# Altium footprint library DLP-Cape.PcbLib: 14 footprints
Each footprint in its own frame and in the unit in brackets; x right, y up, seen from the top. Pads: shape width x height; smd on the part's side, far side on the other; paste and mask are expansions set on the pad; w line width, h text height; cw(c..) or ccw(c..) is an arc to the next point about the centre after c.
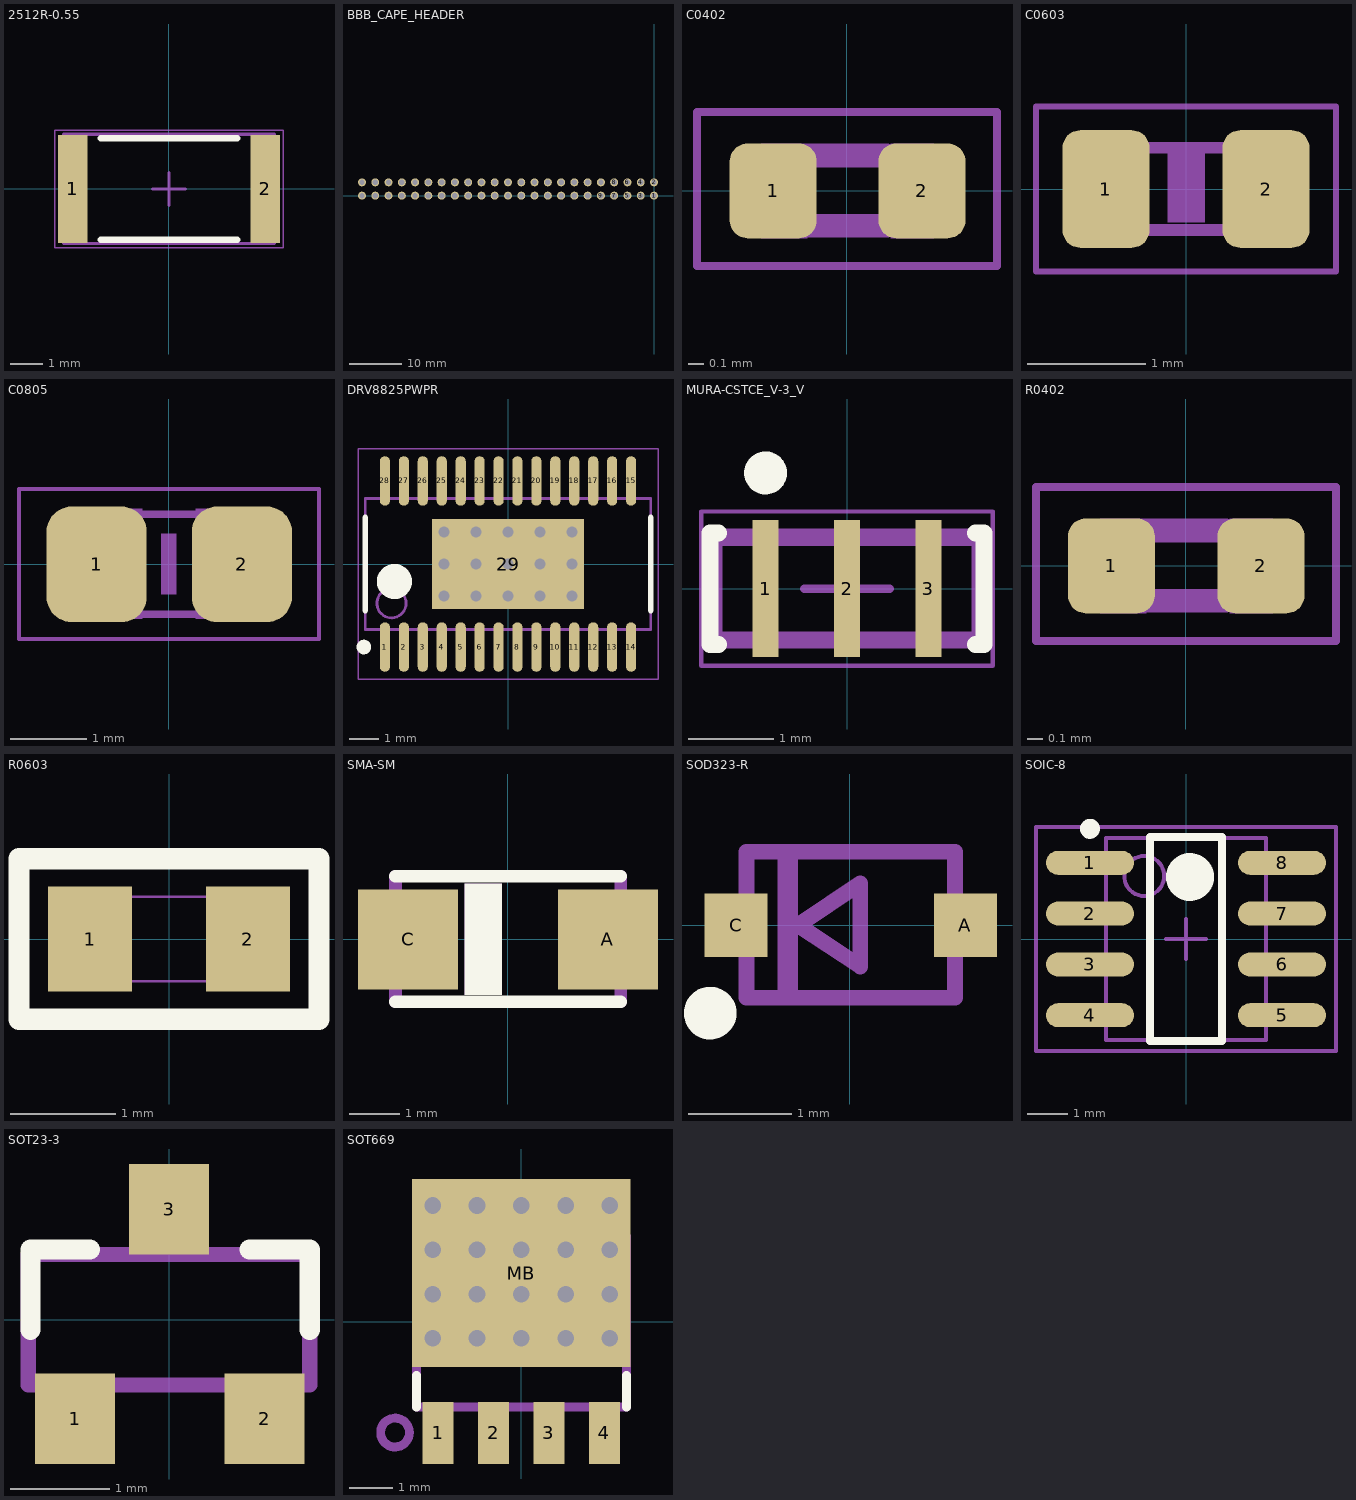
[diagram p0: the footprints below, top view; thin cyan lines are the x and y axes]

## 2512R-0.55 [mm] "2512 Resistor 6.35mm x 3.2mm x 0.55mm"
height 0.65
pads (2):
  rect 0.9x3.3 smd: 1(-2.95,0) 2(2.95,0)
Top Overlay:
  lines w0.2: -2.1,-1.55 2.1,-1.55 ; -2.1,1.55 2.1,1.55
Mechanical 13:
  lines w0.1: -3.225,-1.675 3.225,-1.675 3.225,1.675 -3.225,1.675 -3.225,-1.675
Mechanical 15:
  lines w0.05: -3.5,-1.8 3.5,-1.8 3.5,1.8 -3.5,1.8 -3.5,-1.8
  lines w0.1: -0.5,0 0.5,0 ; 0,-0.5 0,0.5
3D body: height 0.65, standoff 0, extent 2.725,-1.675 3.225,1.675
3D body: height 0.65, standoff 0, extent -3.225,-1.675 -2.725,1.675
3D body: height 0.65, standoff 0, extent -2.725,-1.675 2.725,1.675

## BBB_CAPE_HEADER [mil] "46-pin male header for BeagleBone Black P8,P9"
pads (46):
  round 60 hole 40: 1(0,0) 2(0,100) 3(-100,0) 4(-100,100) 5(-200,0) 6(-200,100) 7(-300,0) 8(-300,100) 9(-400,0) 10(-400,100) 11(-500,0) 12(-500,100) 13(-600,0) 14(-600,100) 15(-700,0) 16(-700,100) 17(-800,0) 18(-800,100) 19(-900,0) 20(-900,100) 21(-1000,0) 22(-1000,100) 23(-1100,0) 24(-1100,100) 25(-1200,0) 26(-1200,100) 27(-1300,0) 28(-1300,100) 29(-1400,0) 30(-1400,100) 31(-1500,0) 32(-1500,100) 33(-1600,0) 34(-1600,100) 35(-1700,0) 36(-1700,100) 37(-1800,0) 38(-1800,100) 39(-1900,0) 40(-1900,100) 41(-2000,0) 42(-2000,100) 43(-2100,0) 44(-2100,100) 45(-2200,0) 46(-2200,100)
3D body "c-87224-2-l-3d.stp": height 408.48, standoff -124.52, extent -2246,-42 -2154,142
3D body "c-87224-2-l-3d.stp": height 408.48, standoff -124.52, extent -2046,-42 -1954,142
3D body "c-87224-2-l-3d.stp": height 408.48, standoff -124.52, extent -2146,-42 -2054,142
3D body "c-87224-2-l-3d.stp": height 408.48, standoff -124.52, extent -1846,-42 -1754,142
3D body "c-87224-2-l-3d.stp": height 408.48, standoff -124.52, extent -1946,-42 -1854,142
3D body "c-87224-2-l-3d.stp": height 408.48, standoff -124.52, extent -1646,-42 -1554,142
3D body "c-87224-2-l-3d.stp": height 408.48, standoff -124.52, extent -1746,-42 -1654,142
3D body "c-87224-2-l-3d.stp": height 408.48, standoff -124.52, extent -1446,-42 -1354,142
3D body "c-87224-2-l-3d.stp": height 408.48, standoff -124.52, extent -1546,-42 -1454,142
3D body "c-87224-2-l-3d.stp": height 408.48, standoff -124.52, extent -1246,-42 -1154,142
3D body "c-87224-2-l-3d.stp": height 408.48, standoff -124.52, extent -1346,-42 -1254,142
3D body "c-87224-2-l-3d.stp": height 408.48, standoff -124.52, extent -1046,-42 -954,142
3D body "c-87224-2-l-3d.stp": height 408.48, standoff -124.52, extent -1146,-42 -1054,142
3D body "c-87224-2-l-3d.stp": height 408.48, standoff -124.52, extent -846,-42 -754,142
3D body "c-87224-2-l-3d.stp": height 408.48, standoff -124.52, extent -946,-42 -854,142
3D body "c-87224-2-l-3d.stp": height 408.48, standoff -124.52, extent -646,-42 -554,142
3D body "c-87224-2-l-3d.stp": height 408.48, standoff -124.52, extent -746,-42 -654,142
3D body "c-87224-2-l-3d.stp": height 408.48, standoff -124.52, extent -446,-42 -354,142
3D body "c-87224-2-l-3d.stp": height 408.48, standoff -124.52, extent -546,-42 -454,142
3D body "c-87224-2-l-3d.stp": height 408.48, standoff -124.52, extent -246,-42 -154,142
3D body "c-87224-2-l-3d.stp": height 408.48, standoff -124.52, extent -346,-42 -254,142
3D body "c-87224-2-l-3d.stp": height 408.48, standoff -124.52, extent -146,-42 -54,142
3D body "c-87224-2-l-3d.stp": height 408.48, standoff -124.52, extent -46,-42 46,142

## C0402 [mil]
pads (2):
  rrect40% 22x24 smd: 1(-18.7,0) 2(19,0)
Mechanical 16:
  rectangle: -21.8,-12 -9.98,12
  rectangle: 11,-12 22,12
  lines w2: -37.99,-19.02 38,-19.02 38,20 -37.99,20 -37.99,-19.02
  lines w6: -9.65,-8.82 10,-8.82 ; -9.65,9 10,9
3D body: height 19.68, standoff 0, extent -20,-10 20,10

## C0603 [mm]
pads (2):
  rrect40% 0.74x1 smd: 1(-0.68,0) 2(0.68,0)
Mechanical 6:
  rectangle: -0.159,-0.285 0.161,0.315
Mechanical 16:
  rectangle: 0.45,-0.4 0.8,0.4
  rectangle: -0.8,-0.4 -0.45,0.4
  lines w0.051: -1.275,-0.7 -1.275,0.7 1.275,0.7 1.275,-0.7 -1.275,-0.7
  lines w0.1: -0.45,0.35 0.45,0.35
  lines w0.102: -0.45,-0.35 0.45,-0.35
3D body: height 0.8, standoff 0, extent -0.8,-0.4 0.8,0.4

## C0805 [mil]
pads (2):
  rrect50% 52x60 smd: 1(-37.4,0) 2(38,0)
Mechanical 6:
  rectangle: -3.94,-15.75 4,16
Mechanical 16:
  rectangle: 14,-28.5 44,29
  rectangle: -43,-28.5 -13.47,29
  lines w2: -77.68,-38.7 -77.68,39 78,39 78,-38.7 -77.68,-38.7
  lines w4: -15,26 15,26 ; -14.02,-25.98 15,-25.98
3D body: height 35.43, standoff 0, extent -40,-30 40,30

## DRV8825PWPR [mm] "PowerPAD (HTSSOP) - PWP"
height 1.2
pads (29):
  oval 0.35x1.7 smd: 1(-4.225,-2.85) 2(-3.575,-2.85) 3(-2.925,-2.85) 4(-2.275,-2.85) 5(-1.625,-2.85) 6(-0.975,-2.85) 7(-0.325,-2.85) 8(0.325,-2.85) 9(0.975,-2.85) 10(1.625,-2.85) 11(2.275,-2.85) 12(2.925,-2.85) 13(3.575,-2.85) 14(4.225,-2.85) 15(4.225,2.85) 16(3.575,2.85) 17(2.925,2.85) 18(2.275,2.85) 19(1.625,2.85) 20(0.975,2.85) 21(0.325,2.85) 22(-0.325,2.85) 23(-0.975,2.85) 24(-1.625,2.85) 25(-2.275,2.85) 26(-2.925,2.85) 27(-3.575,2.85) 28(-4.225,2.85)
  rect 5.22x3.1 smd mask-6: 29(0,0)
via 2.2,1.1 diameter 0.737 hole 0.381
via 2.2,0 diameter 0.737 hole 0.381
via 2.2,-1.1 diameter 0.737 hole 0.381
via 1.1,1.1 diameter 0.737 hole 0.381
via 1.1,0 diameter 0.737 hole 0.381
via 1.1,-1.1 diameter 0.737 hole 0.381
via 0,1.1 diameter 0.737 hole 0.381
via 0,0 diameter 0.737 hole 0.381
via 0,-1.1 diameter 0.737 hole 0.381
via -1.1,1.1 diameter 0.737 hole 0.381
via -1.1,0 diameter 0.737 hole 0.381
via -1.1,-1.1 diameter 0.737 hole 0.381
via -2.2,1.1 diameter 0.737 hole 0.381
via -2.2,0 diameter 0.737 hole 0.381
via -2.2,-1.1 diameter 0.737 hole 0.381
Top Overlay:
  circle w0.25: c-4.95,-2.85 r0.125
  circle w0.6: c-3.9,-0.6 r0.3
  lines w0.2: -4.9,-1.6 -4.9,1.6 ; 4.9,-1.6 4.9,1.6
Top Solder:
  drawing of 6 lines, arcs and shapes, not listed
Mechanical 13:
  circle w0.1: c-4,-1.35 r0.5
  lines w0.1: -4.9,-2.25 -4.9,2.25 4.9,2.25 4.9,-2.25 -4.9,-2.25
Mechanical 15:
  lines w0.05: -5.15,-3.95 -5.15,3.95 5.15,3.95 5.15,-3.95 -5.15,-3.95
  lines w0.1: -0.5,0 0.5,0 ; 0,-0.5 0,0.5
3D body: height 1.2, standoff 0.1, extent -4.9,-2.25 4.9,2.25

## MURA-CSTCE_V-3_V [mm] "SMD, 3-Leads, Body 3.2x1.3mm, Pitch 0.95mm"
height 1
pads (3):
  rect 0.3x1.6 smd: 1(-0.95,0) 2(0,0) 3(0.95,0)
Top Overlay:
  circle w0.25: c-0.95,1.35 r0.125
  lines w0.2: -1.5,-0.65 -1.6,-0.65 -1.6,0.65 -1.5,0.65 ; 1.5,-0.65 1.6,-0.65 1.6,0.65 1.5,0.65
Mechanical 13:
  lines w0.1: -1.6,-0.65 1.6,-0.65 1.6,0.65 -1.6,0.65 -1.6,-0.65 ; -1.5,-0.55 -1.5,0.55 1.5,0.55 1.5,-0.55 -1.5,-0.55
Mechanical 15:
  lines w0.05: -1.7,-0.9 1.7,-0.9 1.7,0.9 -1.7,0.9 -1.7,-0.9
  lines w0.1: -0.5,0 0.5,0 ; 0,-0.5 0,0.5
3D body: height 1, standoff 0, extent -1.5,-0.55 1.5,0.55
3D body: height 0.4, standoff 0, extent -1.6,-0.65 1.6,0.65

## R0402 [mil]
pads (2):
  rrect40% 22x24 smd: 1(-18.9,0) 2(19,0)
Mechanical 16:
  rectangle: -21.81,-12 -10,12
  rectangle: 11,-12 22,12
  lines w2: -37.99,-19.02 38,-19.02 38,20 -37.99,20 -37.99,-19.02
  lines w6: -9.65,-8.82 10,-8.82 ; -9.65,9 10,9
3D body: height 13.78, standoff 0, extent -20,-10 20,10

## R0603 [mm]
pads (2):
  rect 0.8x1 smd: 1(-0.75,0) 2(0.75,0)
Top Overlay:
  lines w0.203: -1.425,-0.762 -1.425,0.762 1.425,0.762 1.425,-0.762 -1.425,-0.762
Mechanical 1:
  lines w0.025: -0.555,-0.4 -0.555,0.4 ; 0.555,-0.4 0.555,0.4 ; -0.8,-0.4 0.8,-0.4 0.8,0.4 -0.8,0.4 -0.8,-0.4
3D body "R0603.STEP": height 0.45, standoff 0, extent -0.8,-0.4 0.8,0.4

## SMA-SM [mil]
pads (2):
  rect 79x79 smd: A(79,0) C(-78.74,0)
Top Overlay:
  rectangle: -34.06,-43.9 -4.53,44
  lines w10: -88.58,-49.21 89,-49.21 ; -88.58,50 89,50
Mechanical 8:
  rectangle: 94,-32.48 111,32
  rectangle: -110.24,-31.5 -93.7,32
  rectangle: -34.06,-43.9 -4.53,44
  lines w10: -88.58,-49.21 -88.58,50 ; 89,-49.21 89,50
3D body: height 116.14, standoff 0, extent -93.58,-54.21 94,55
3D body: height 78.74, standoff 0, extent -105,-40 105,40

## SOD323-R [mil]
height 23.62
pads (2):
  rect 24x24 smd: A(44,0) C(-43.31,0)
Top Overlay:
  circle w10: c-53.15,-33.46 r5.02
Mechanical 8:
  rectangle: -27.56,-27.56 -19.69,28
  lines w6: -39.37,-27.56 40,-27.56 40,28 -39.37,28 -39.37,-27.56 ; -19.69,0 4,16 4,-15.75 -19.69,0
3D body: height 27.56, standoff 0, extent -42.37,-30.56 43,31
3D body: height 15.75, standoff 0, extent -50,-5 -35,5
3D body: height 15.75, standoff 0, extent 35,-5 50,5

## SOIC-8 [mm] "SOIC, 8-Leads, Body 5.1x4.0mm (max), Pitch 1.27mm, IPC Medium Density"
height 1.75
pads (8):
  oval 2.2x0.6 smd: 1(-2.4,1.905) 2(-2.4,0.635) 3(-2.4,-0.635) 4(-2.4,-1.905) 5(2.4,-1.905) 6(2.4,-0.635) 7(2.4,0.635) 8(2.4,1.905)
Top Overlay:
  circle w0.6: c0.1,1.55 r0.3
  circle w0.25: c-2.4,2.755 r0.125
  lines w0.2: -0.9,-2.55 0.9,-2.55 0.9,2.55 -0.9,2.55 -0.9,-2.55
Mechanical 13:
  circle w0.1: c-1.045,1.575 r0.5
  lines w0.1: -1.995,-2.525 1.995,-2.525 1.995,2.525 -1.995,2.525 -1.995,-2.525
Mechanical 15:
  lines w0.1: -0.5,0 0.5,0 ; 0,-0.5 0,0.5 ; -3.75,-2.8 3.75,-2.8 3.75,2.8 -3.75,2.8 -3.75,-2.8
3D body: height 1.75, standoff 0.1, extent -2.032,-2.51 1.958,2.54

## SOT23-3 [mil]
pads (3):
  rect 32x36 smd: 1(-37.4,-39.37) 2(38,-39.37) 3(0,44)
Top Overlay:
  lines w8: -55.12,-3.94 -55.12,28 -31.5,28 ; 32,28 56,28 56,-3.94
Mechanical 8:
  lines w6: -56,-26 56,-26 56,26 -56,26 -56,-26
3D body: height 15.75, standoff 0, extent 27.5,-45 52.5,-25
3D body: height 15.75, standoff 0, extent -47.5,-45 -22.5,-25
3D body: height 15.75, standoff 0, extent -10,27.5 10,52.5
3D body: height 44.09, standoff 0, extent -59,-29 59,29

## SOT669 [mil]
pads (5):
  rect 28x56 smd: 1(-75,-100.39) 2(-25,-100.39) 3(25,-100.39) 4(75,-100.39)
  rect 197x170 smd mask-200: MB(0,44)
via 0,65 diameter 30 hole 15
via 0,105 diameter 30 hole 15
via 0,25 diameter 30 hole 15
via 0,-15 diameter 30 hole 15
via -40,-15 diameter 30 hole 15
via -80,-15 diameter 30 hole 15
via -80,25 diameter 30 hole 15
via -40,25 diameter 30 hole 15
via -40,65 diameter 30 hole 15
via -80,65 diameter 30 hole 15
via -80,105 diameter 30 hole 15
via -40,105 diameter 30 hole 15
via 40,105 diameter 30 hole 15
via 80,105 diameter 30 hole 15
via 80,65 diameter 30 hole 15
via 40,65 diameter 30 hole 15
via 40,25 diameter 30 hole 15
via 80,25 diameter 30 hole 15
via 80,-15 diameter 30 hole 15
via 40,-15 diameter 30 hole 15
Top Overlay:
  lines w8: -94.49,-76.77 -94.49,-48.23 ; 95,-76.77 95,-48.23
Top Paste:
  region: 9,-37.8 9,-32.68 13,-29.13 27,-29.13 30,-32.68 30,-37.8
  region: -29.13,-37.8 -29.13,-32.68 -25.59,-29.13 -11.42,-29.13 -7.87,-32.68 -7.87,-37.8
  region: 60,-28.74 51,-28.74 47,-33.07 47,-37.8 60,-37.8
  region: -59.45,-28.74 -49.61,-28.74 -45.28,-33.07 -45.28,-37.8 -59.45,-37.8
  region: 45,128 67,128 67,104 64,100 49,100 45,104
  region: 8,128 30,128 30,104 26,100 12,100 8,104
  region: -30.32,128 -7.87,128 -7.87,103 -11.42,100 -26.38,100 -30.32,104
  region: -68.11,128 -45.67,128 -45.67,103 -49.21,100 -64.17,100 -68.11,104
  region: 87,128 97,128 97,76 87,76
  region: -96.06,128 -85.04,128 -85.04,76 -96.06,76
Top Solder:
  drawing of 5 lines, arcs and shapes, not listed
Mechanical 8:
  circle w8: c-113.98,-100 r13
  rectangle: 64,-110.24 87,-85.63
  rectangle: 66,-122.05 85,-80.71
  rectangle: 14,-110.24 37,-85.63
  rectangle: 16,-122.05 35,-80.71
  rectangle: -36.81,-110.24 -13.19,-85.63
  rectangle: -34.84,-122.05 -15.16,-80.71
  rectangle: -86.81,-110.24 -63.19,-85.63
  rectangle: -84.84,-122.05 -65.16,-80.71
  lines w8: -94.49,77 -94.49,-76.77 95,-76.77 95,77
3D body: height 11.81, standoff 0, extent 65,-120 85,-75
3D body: height 11.81, standoff 0, extent 15,-120 35,-75
3D body: height 11.81, standoff 0, extent -35,-120 -15,-75
3D body: height 11.81, standoff 0, extent -85,-120 -65,-75
3D body: height 11.81, standoff 0, extent -96.06,-37.8 97,128
3D body: height 43.31, standoff 0, extent -94.47,-76.75 94.98,76.98